# Altium schematic symbol library M24C16-RMN6TP.SchLib: 1 symbol
Pins are listed as number, name and electrical type; pins without a type are passive.

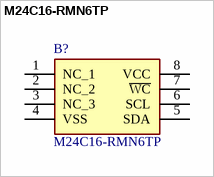
[diagram p0: symbol M24C16-RMN6TP]

## M24C16-RMN6TP
designator B?
M24C16-RMN6TP, Serial EEPROM Memory 16kbit, Serial-I2C, 900ns, 1.8V, 8-Pin SOIC; Manufacturer_Name: STMicroelectronics; Geometry.Height: 1.75mm; Mouser Part Number: 511-M24C16-RMN6TP; Mouser Price/Stock: https://www.mouser.co.uk/ProductDetail/STMicroelectronics/M24C16-RMN6TP?qs=%252B9pWl1iD4MU2Vux9rOFCEg%3D%3D; Manufacturer_Part_Number: M24C16-RMN6TP; Datasheet Link: http://www.st.com/st-web-ui/static/active/en/resource/technical/document/datasheet/DM00061111.pdf
footprint SOIC127P600X175-8N
pins: 1 NC_1, 2 NC_2, 3 NC_3, 4 VSS, 5 SDA, 6 SCL, 7 ~{WC}, 8 VCC